# EAGLE library part LP5030 (library texas)
LP5030 30-Channel 12-Bit PWM Ultra-low Quiescent Current I2C RGB LED Driver
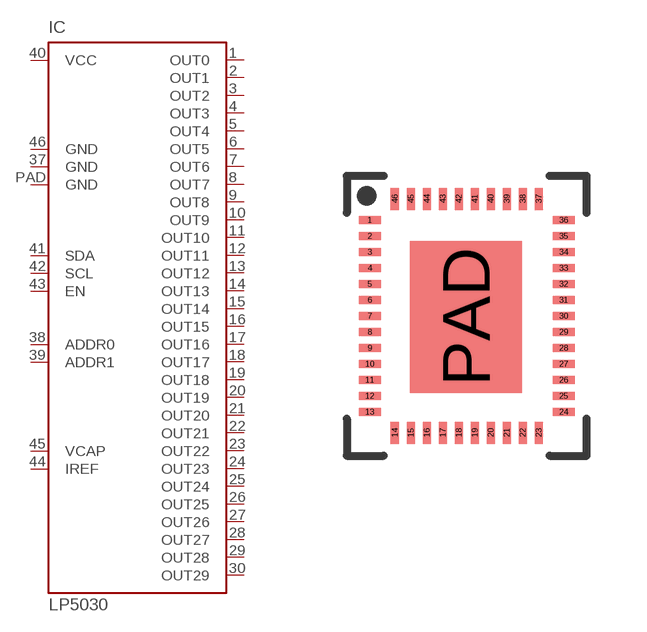
[diagram p33: symbol with the pads of VQFN46; footprint VQFN46]

Designator prefix IC

## LP5030  [VQFN46]
1  OUT0  pas
2  OUT1  pas
3  OUT2  pas
4  OUT3  pas
5  OUT4  pas
6  OUT5  pas
7  OUT6  pas
8  OUT7  pas
9  OUT8  pas
10  OUT9  pas
11  OUT10  pas
12  OUT11  pas
13  OUT12  pas
14  OUT13  pas
15  OUT14  pas
16  OUT15  pas
17  OUT16  pas
18  OUT17  pas
19  OUT18  pas
20  OUT19  pas
21  OUT20  pas
22  OUT21  pas
23  OUT22  pas
24  OUT23  pas
25  OUT24  pas
26  OUT25  pas
27  OUT26  pas
28  OUT27  pas
29  OUT28  pas
30  OUT29  pas
37  GND  pwr
38  ADDR0  in
39  ADDR1  in
40  VCC  pwr
41  SDA
42  SCL
43  EN  in
44  IREF  pas
45  VCAP  pas
46  GND  pwr
PAD  GND  pwr

## Footprint VQFN46 (pad centres in mm)
smd 0.55 x 0.2: 1 -2.425,2.4; 2 -2.425,2; 3 -2.425,1.6; 4 -2.425,1.2; 5 -2.425,0.8; 6 -2.425,0.4; 7 -2.425,0; 8 -2.425,-0.4; 9 -2.425,-0.8; 10 -2.425,-1.2; 11 -2.425,-1.6; 12 -2.425,-2; 13 -2.425,-2.4; 24 2.425,-2.4; 25 2.425,-2; 26 2.425,-1.6; 27 2.425,-1.2; 28 2.425,-0.8; 29 2.425,-0.4; 30 2.425,0; 31 2.425,0.4; 32 2.425,0.8; 33 2.425,1.2; 34 2.425,1.6; 35 2.425,2; 36 2.425,2.4
smd 0.2 x 0.55: 14 -1.8,-2.925; 15 -1.4,-2.925; 16 -1,-2.925; 17 -0.6,-2.925; 18 -0.2,-2.925; 19 0.2,-2.925; 20 0.6,-2.925; 21 1,-2.925; 22 1.4,-2.925; 23 1.8,-2.925; 37 1.8,2.925; 38 1.4,2.925; 39 1,2.925; 40 0.6,2.925; 41 0.2,2.925; 42 -0.2,2.925; 43 -0.6,2.925; 44 -1,2.925; 45 -1.4,2.925; 46 -1.8,2.925
smd 2.8 x 3.8: PAD -0.025,-0.025